# EAGLE library part USB-TYPE-C (library 0_my_parts)
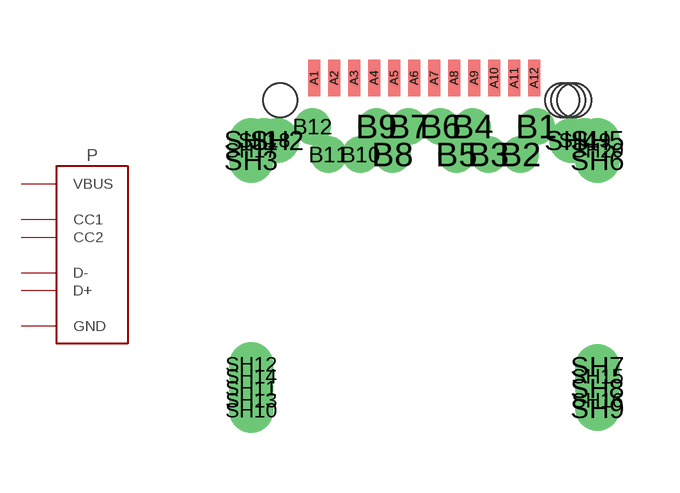
[diagram p12: symbol with the pads of UJ31-CH-31-SMT-TR; footprint UJ31-CH-31-SMT-TR]

Designator prefix P

## USB-TYPE-C  [UJ31-CH-31-SMT-TR]
A1  GND
A4  VBUS
A5  CC1
A6  D+
A7  D-
A9  VBUS
A12  GND
B1  GND
B4  VBUS
B5  CC2
B6  D+
B7  D-
B9  VBUS
B12  GND
SH1  GND
SH2  GND
SH3  GND
SH4  GND
SH5  GND
SH6  GND
SH7  GND
SH8  GND
SH9  GND
SH10  GND
SH11  GND
SH12  GND
SH13  GND
SH14  GND
SH15  GND
SH16  GND
SH17  GND
SH18  GND
SH19  GND
SH20  GND

## Footprint UJ31-CH-31-SMT-TR (pad centres in mm)
smd 0.3 x 0.9: A1 -2.75,0.56; A2 -2.25,0.56; A3 -1.75,0.56; A4 -1.25,0.56; A5 -0.75,0.56; A6 -0.25,0.56; A7 0.25,0.56; A8 0.75,0.56; A9 1.25,0.56; A10 1.75,0.56; A11 2.25,0.56; A12 2.75,0.56
drill 0.4 pad 0.59: B1 2.8,-0.65; B2 2.4,-1.35; B3 1.6,-1.35; B4 1.2,-0.65; B5 0.8,-1.35; B6 0.4,-0.65; B7 -0.4,-0.65; B8 -0.8,-1.35; B9 -1.2,-0.65; B10 -1.6,-1.35; B11 -2.4,-1.35; B12 -2.8,-0.65
drill 0.6 pad 0.9: SH1 -4.33,-1; SH2 -3.68,-1; SH3 -4.33,-1.5; SH4 3.68,-1; SH5 4.33,-1; SH6 4.33,-1.5; SH7 4.33,-6.65; SH8 4.33,-7.2; SH9 4.33,-7.7; SH10 -4.33,-7.75; SH11 -4.33,-7.2; SH12 -4.33,-6.6; SH13 -4.33,-7.5; SH14 -4.33,-6.9; SH15 4.33,-6.9; SH16 4.33,-7.5; SH17 -4.33,-1.25; SH18 -4.005,-1; SH19 4.005,-1; SH20 4.33,-1.25
hole 0.85 at -3.6,0
hole 0.85 at 3.45,0
hole 0.85 at 3.75,0
hole 0.85 at 3.6,0